# Altium footprint library hub_card_pcb_lib.PcbLib: 4 footprints
Each footprint in its own frame and in the unit in brackets; x right, y up, seen from the top. Pads: shape width x height; smd on the part's side, far side on the other; paste and mask are expansions set on the pad; w line width, h text height; cw(c..) or ccw(c..) is an arc to the next point about the centre after c.
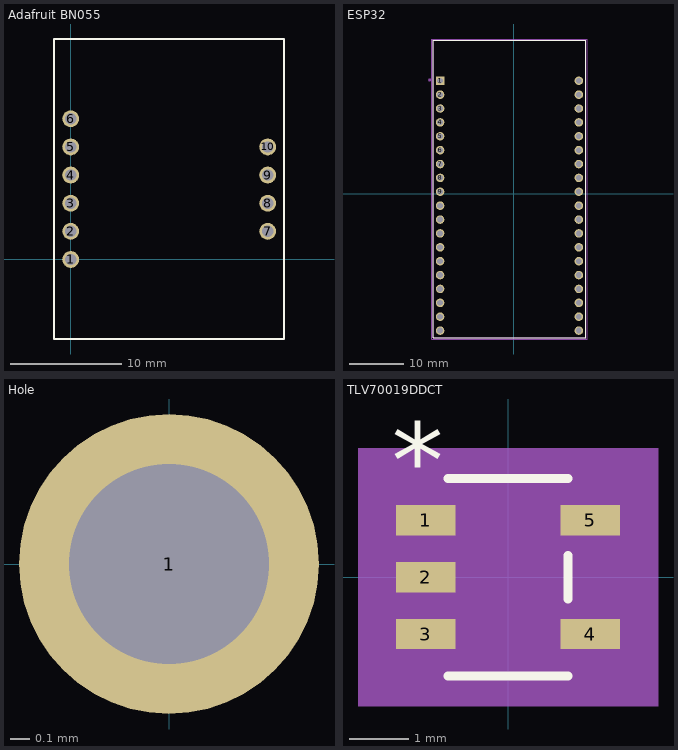
[diagram p0: the footprints below, top view; thin cyan lines are the x and y axes]

## Adafruit BN055 [mil] "Adafruit BN055"
pads (10):
  round 60 hole 40.16: 1(0,0) 2(0,100) 3(0,200) 4(0,300) 5(0,400) 6(0,500) 7(700,100) 8(700,200) 9(700,300) 10(700,400)
Top Overlay:
  lines w7.87: -59.06,-282.48 757.87,-282.48 757.87,783.46 -59.06,783.46 -59.06,-282.48
3D body "Adafruit_BNO055_AP214.STEP": height 163.89, standoff -1.47, extent -49.61,-274.61 750.39,775.39

## ESP32 [mm]
pads (38):
  rect 1.56x1.56 hole 1.04: 1(-13.462,20.649)
  round 1.56 hole 1.04: 2(-13.462,18.109) 3(-13.462,15.569) 4(-13.462,13.029) 5(-13.462,10.489) 6(-13.462,7.949) 7(-13.462,5.409) 8(-13.462,2.869) 9(-13.462,0.329) 10(-13.462,-2.211) 11(-13.462,-4.751) 12(-13.462,-7.291) 13(-13.462,-9.831) 14(-13.462,-12.371) 15(-13.462,-14.911) 16(-13.462,-17.451) 17(-13.462,-19.991) 18(-13.462,-22.531) 19(-13.462,-25.071) 20(11.938,20.649) 21(11.938,18.109) 22(11.938,15.569) 23(11.938,13.029) 24(11.938,10.489) 25(11.938,7.949) 26(11.938,5.409) 27(11.938,2.869) 28(11.938,0.329) 29(11.938,-2.211) 30(11.938,-4.751) 31(11.938,-7.291) 32(11.938,-9.831) 33(11.938,-12.371) 34(11.938,-14.911) 35(11.938,-17.451) 36(11.938,-19.991) 37(11.938,-22.531) 38(11.938,-25.071)
Top Overlay:
  lines w0.127: -14.712,-26.361 13.188,-26.361 13.188,28.039 -14.712,28.039 -14.712,-26.361
Mechanical 13:
  circle w0.28: c-15.362,20.789 r0.14
  lines w0.127: -14.712,-26.361 -14.712,28.039 13.188,28.039 13.188,-26.361 -14.712,-26.361
Mechanical 15:
  lines w0.05: -14.962,-26.611 -14.962,28.289 13.438,28.289 13.438,-26.611 -14.962,-26.611
3D body "step_temp.STEP": height 4.16, standoff -8.53, extent -14.72,-27 13.22,28.1

## Hole [mm]
pads (1):
  round 1.56 hole 1.04: 1(0,0)

## TLV70019DDCT [mil]
pads (5):
  rect 39.28x20 smd paste+0 mask+0: 1(-54.14,37.4) 2(-54.14,0) 3(-54.14,-37.4) 4(54.14,-37.4) 5(54.14,37.4)
Top Overlay:
  lines w6: -39.5,-65 39.5,-65 ; -39.5,65 39.5,65 ; 39.5,-14.3 39.5,14.3
  text "*" at -76.64,52.4 h50
Mechanical 5:
  region: 98.78,-85 -98.78,-85 -98.78,85 98.78,85
Mechanical 13:
  lines w0: -12,60 ccw(c0,60) 12,60
  lines w1: -60,-47.4 -34.5,-47.4 -34.5,-27.4 -60,-27.4 -60,-47.4 ; -60,-10 -34.5,-10 -34.5,10 -60,10 -60,-10 ; -60,27.4 -34.5,27.4 -34.5,47.4 -60,47.4 -60,27.4 ; -34.5,-60 -34.5,60 34.5,60 34.5,-60 -34.5,-60 ; 34.5,-47.4 60,-47.4 60,-27.4 34.5,-27.4 34.5,-47.4 ; 34.5,27.4 60,27.4 60,47.4 34.5,47.4 34.5,27.4
  text "*" at -37,14.4 h50
Mechanical 15:
  region: 44.5,-70 -44.5,-70 -44.5,-57.4 -83.78,-57.4 -83.78,57.4 -44.5,57.4 -44.5,70 44.5,70 44.5,57.4 83.78,57.4 83.78,-57.4 44.5,-57.4
  lines w6: -83.78,-57.4 -83.78,57.4 -44.5,57.4 -44.5,70 44.5,70 44.5,57.4 83.78,57.4 83.78,-57.4 44.5,-57.4 44.5,-70 -44.5,-70 -44.5,-57.4 -83.78,-57.4
3D body "DDC5.step": height 43.11, standoff 0, extent -60,-60 60,60